# EAGLE library part ATTINY12 (library atmel)
8-bit AVR tiny Microcontroller Status obsolete / discontinued ATtiny12 ATtiny12L ATtiny12V General purpose working registers 32 Program flash memory 1 kB EEPROM 64 B 8-bit Timer/Counter 1 AC 1 Watchdog 1 General purpose I/O 6 External interrupts 6 Operating voltage 4.0 ... 5.5 V 2.7 ... 5.5 V 1.8 ... 5.5 V Speed grade 0 ... 8 MHz 0 ... 4 MHz 0 ... 1.2 MHz Clock options internal 1.2 MHz RC oscillator external crystal oscillator / ceramic resonator external low-frequency crystal oscillator external RC oscillator external clock input
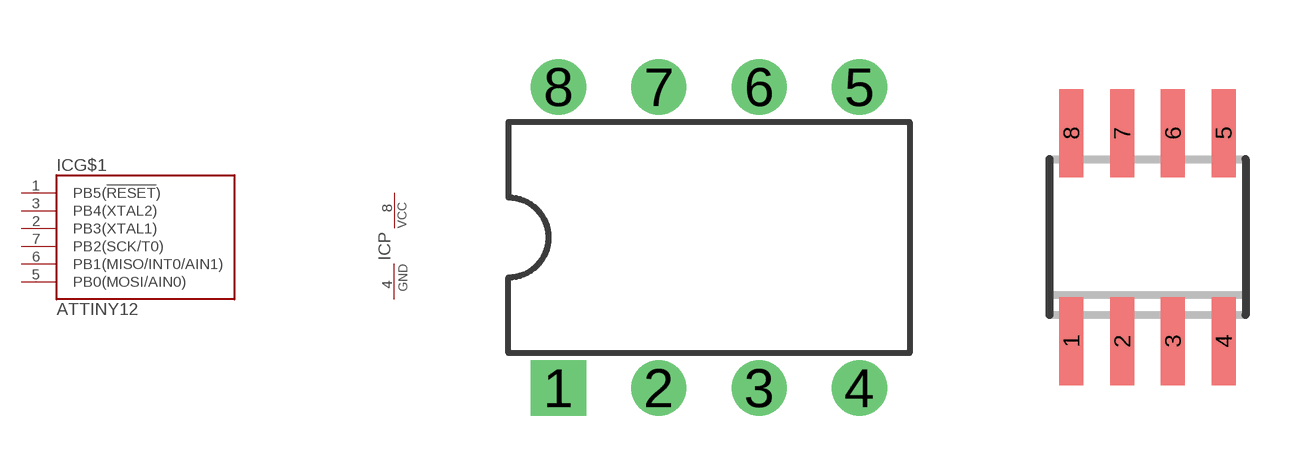
[diagram p69: symbol with the pads of DIL08; footprints DIL08, SO8]

Designator prefix IC; gates G$1=TINY11 P=PWR

## ATTINY12-8P, ATTINY12L-4P, ATTINY12V-1P  [DIL08]
1  G$1:PB5(!RESET!)
2  G$1:PB3(XTAL1)
3  G$1:PB4(XTAL2)
4  P:GND  pwr
5  G$1:PB0(MOSI/AIN0)
6  G$1:PB1(MISO/INT0/AIN1)
7  G$1:PB2(SCK/T0)
8  P:VCC  pwr

## ATTINY12-8S, ATTINY12L-4S, ATTINY12V-1S  [SO8]
Pads as for DIL08

## Footprint DIL08 (pad centres in mm)
DIL package, pin row distance 300mil
drill 0.8 pad 1.4 square: 1 -3.81,-3.81
drill 0.8 pad 1.4: 2 -1.27,-3.81; 3 1.27,-3.81; 4 3.81,-3.81; 5 3.81,3.81; 6 1.27,3.81; 7 -1.27,3.81; 8 -3.81,3.81

## Footprint SO8 (pad centres in mm)
Small Outline IC, 150mil body width, 50mil lead pitch package/pad dimensions according to IPC-SM-782, RLP No. 300A JEDEC: MS-012 AA IPC: SO8 other notations: SO-8, SO08, SO-08, SOIC8, SOIC-8, SOIC08, SOIC-08
smd 0.6 x 2.2: 1 -1.905,-2.6; 2 -0.635,-2.6; 3 0.635,-2.6; 4 1.905,-2.6; 5 1.905,2.6; 6 0.635,2.6; 7 -0.635,2.6; 8 -1.905,2.6